# Altium schematic symbol library BQ29330DBT.SchLib: 1 symbol
Pins are listed as number, name and electrical type; pins without a type are passive.

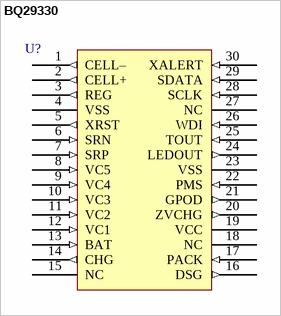
[diagram p0: symbol BQ29330]

## BQ29330
designator U?  (value not drawn)
footprint SOP50P640X120-30N
pins: 1 CELL– (out), 2 CELL+ (out), 3 REG (out), 4 VSS (power), 5 XRST (out), 6 SRN (in), 7 SRP (in), 8 VC5 (in), 9 VC4 (in), 10 VC3 (in), 11 VC2 (in), 12 VC1 (in), 13 BAT (in), 14 CHG (out), 15 NC, 16 DSG (out), 17 PACK (in) "PACK positive terminal and alternative power source", 18 NC, 19 VCC (power), 20 ZVCHG (out) "Connect the precharge P-CH FET drive here", 21 GPOD (out) "NCH FET open-drain output", 22 PMS (in) "Determines CHG output state on POR", 23 VSS (power), 24 LEDOUT (out) "3.3-V output for LED display power supply", 25 TOUT (in) "Provides thermistor bias current", 26 WDI (in), 27 NC, 28 SCLK (in), 29 SDATA (in), 30 XALERT (in)